# Altium schematic symbol library Schlib.SchLib: 38 symbols
Pins are listed as number, name and electrical type; pins without a type are passive.

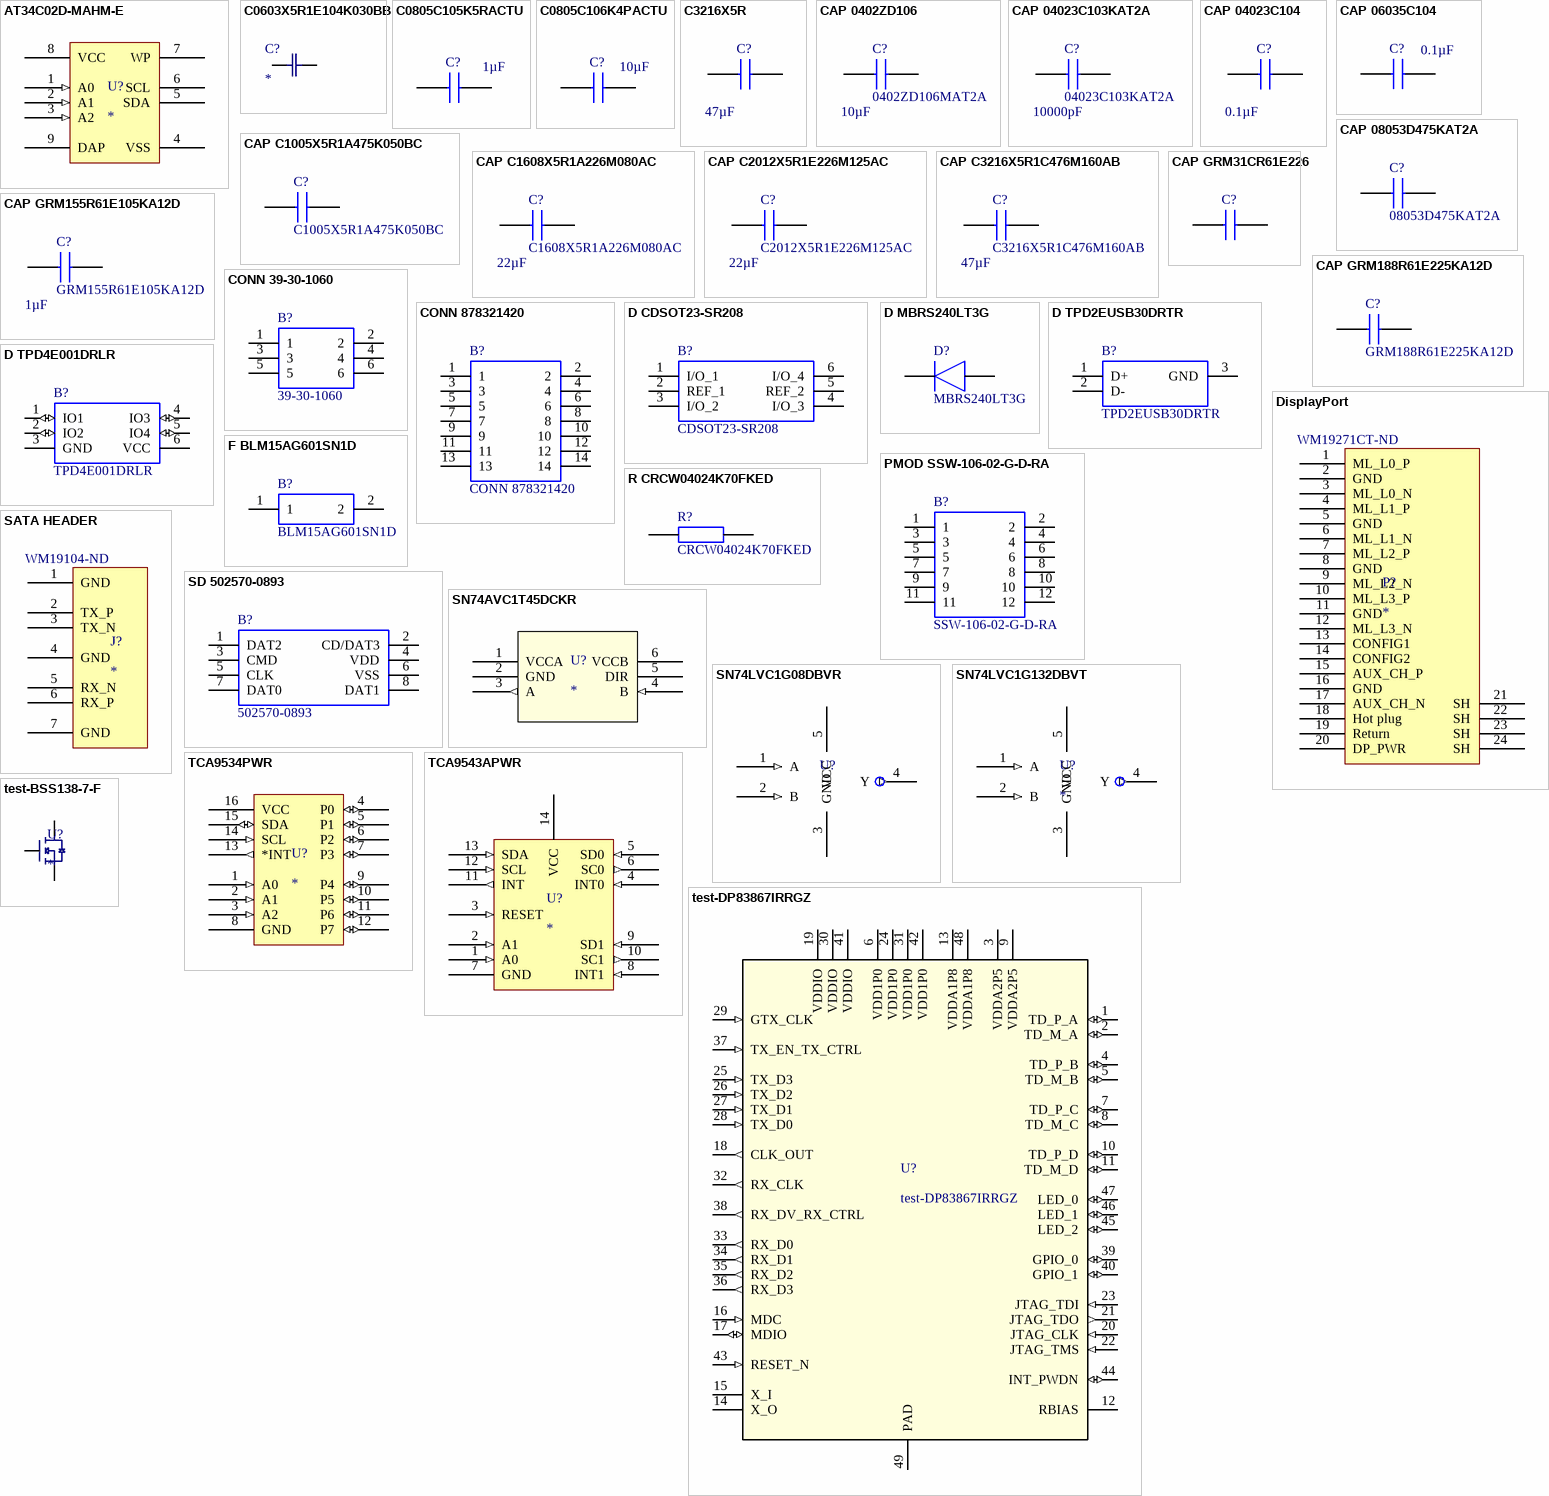
[diagram p0: symbols AT34C02D-MAHM-E to test-DP83867IRRGZ]

## AT34C02D-MAHM-E
designator U?
IC EEPROM 2KBIT 1MHZ 8UDFN; Manufacturer: Microchip Technology; Manufacturer Part Number: AT34C02D-MAHM-T; Detailed Description: EEPROM Memory IC 2Kb (256 x 8) I²C 1MHz 8-UDFN (2x3); Memory Type: Non-Volatile; Memory Size: 2Kb (256 x 8); Write Cycle Time - Word, Page: 5ms; Memory Interface: I²C; Voltage - Supply: 1.7 V ~ 5.5 V; Digi-Key Part Number: AT34C02D-MAHM-TTR-ND; Memory Format: EEPROM; Technology: EEPROM; Clock Frequency: 1MHz; Access Time: -; Operating Temperature: -40°C ~ 85°C (TA); Mounting Type: Surface Mount; Package / Case: 8-UFDFN Exposed Pad; Supplier Device Package: 8-UDFN (2x3); Supplier 1: Digi-Key; Supplier Part Number 1: AT34C02D-MAHM-TTR-ND
footprint AT34C02D-MAHM-E (IC EEPROM 2KBIT 1MHZ 8UDFN)
pins: 1 A0 (in), 2 A1 (in), 3 A2 (in), 4 VSS (power), 5 SDA (power), 6 SCL (power), 7 WP (power), 8 VCC (power), 9 DAP (power)

## C0603X5R1E104K030BB
designator C?
CAP CER 0.1UF 25V 10% X5R 0201; Manufacturer_Part_Number: C0603X5R1E104K030BB; Manufacturer: TDK Corporation; Value: 0.1µF; Detailed Description: 0.1µF ±10% 25V Ceramic Capacitor X5R 0201 (0603 Metric); Digi-Key Part Number: 445-13671-1-ND; Tolerance: ±10%; Voltage - Rated: 25V; Temperature Coefficient: X5R; Operating Temperature: -55°C ~ 85°C; Features: Low ESL; Applications: General Purpose; Mounting Type: Surface Mount, MLCC; Supplier 1: Digi-Key; Supplier Part Number 1: 445-13671-1-ND
footprint CAP_0603
pins: 1, 2

## C0805C105K5RACTU
designator C?  value 1µF  (hidden comment: *)
Capacitor 0805 10uF 16V Kemet 0805 C 10F Ceramic Multilayer Capacitor, 16 V dc, +85C, X5R Dielectric, 10%; Manufacturer_Part_Number: C0805C105K5RACTU; Geometry.Height: 0.88mm; Detailed Description: 10µF ±10% 16V Ceramic Capacitor X5R 0805 (2012 Metric); Voltage - Rated: 50V; Temperature Coefficient: X7R; Supplier_Name: RS; Manufacturer_Name: Kemet; Allied_Number: *; Other Part Number: *; Datasheet Link: http://docs-europe.electrocomponents.com/webdocs/116e/0900766b8116eb59.pdf; 3D Package: *; Digi-Key Part Number: 399-7409-1-ND; Tolerance: ±10%; Operating Temperature: -55°C ~ 125°C; Features: Low ESL; Applications: General Purpose; Mounting Type: Surface Mount, MLCC; Supplier 1: Digi-Key; Supplier Part Number 1: 399-7409-1-ND
footprint C0805C105 (C0805C105K5RACTU)
pins: 1, 2

## C0805C106K4PACTU
designator C?  value 10µF  (hidden comment: *)
Capacitor 0805 10uF 16V Kemet 0805 C 10F Ceramic Multilayer Capacitor, 16 V dc, +85C, X5R Dielectric, 10%; Manufacturer_Part_Number: C0805C106K4PACTU; Geometry.Height: 0.88mm; Detailed Description: 10µF ±10% 16V Ceramic Capacitor X5R 0805 (2012 Metric); Supplier_Name: RS; RS Part Number: 6911161; Manufacturer_Name: Kemet; Allied_Number: *; Other Part Number: *; Datasheet Link: http://docs-europe.electrocomponents.com/webdocs/116e/0900766b8116eb59.pdf; 3D Package: *; Digi-Key Part Number: 399-8012-1-ND; Tolerance: ±10%; Voltage - Rated: 16V; Temperature Coefficient: X5R; Operating Temperature: -55°C ~ 85°C; Features: Low ESL; Applications: General Purpose; Mounting Type: Surface Mount, MLCC; Supplier 1: Digi-Key; Supplier Part Number 1: 399-8012-1-ND
footprint CAP 0805 (C0805C106K4PACTU)
pins: 1, 2

## C3216X5R
designator C?, comment value 47µF  (hidden comment: C3216X5R1C476M160AB)
CAP CER 47UF 16V X5R 1206; Manufacturer_Name: TDK Corporation; Geometry.Height: 1.8mm; Detailed Description: 47µF ±20% 16V Ceramic Capacitor X5R 1206 (3216 Metric); Tolerance: ±20%; Supplier_Name: RS; RS Part Number: 9039158P; Manufacturer_Part_Number: C3216X5R1C476M160AB; Allied_Number: *; Other Part Number: *; Datasheet Link: https://product.tdk.com/info/en/catalog/datasheets/mlcc_commercial_midvoltage_en.pdf; 3D Package: *; Digi-Key Part Number: 445-6003-1-ND; Voltage - Rated: 16V; Temperature Coefficient: X5R; Operating Temperature: -55°C ~ 85°C; Mounting Type: Surface Mount, MLCC; Supplier 1: Digi-Key; Supplier Part Number 1: 445-6003-1-ND
footprint CAPC3216X180N
pins: 1, 2

## CAP 0402ZD106
designator C?, comment 0402ZD106MAT2A  value 10µF
CAP CER 10UF 10V X5R 0402; Manufacturer_Name: AVX; Geometry.Height: 0.56mm; Detailed Description: 10µF ±20% 10V Ceramic Capacitor X5R 0402 (1005 Metric); Tolerance: ±20%; Manufacturer_Part_Number: 0402ZD106MAT2A; Datasheet Link: http://www.mouser.com/catalog/supplier/library/pdf/AVXSurfaceMountCeramic.pdf; Digi-Key Part Number: 478-10052-1-ND; Voltage - Rated: 10V; Temperature Coefficient: X5R; Operating Temperature: -55°C ~ 85°C; Mounting Type: Surface Mount, MLCC; Supplier 1: Digi-Key; Supplier Part Number 1: 478-10052-2-ND
footprint CAP 0402ZD106
pins: 1, 2

## CAP 04023C103KAT2A
designator C?, comment 04023C103KAT2A  Capacitance: 10000pF
Capacitor MLCC 0402 10nF 25V AVX 0402 Standard 10nF Ceramic Multilayer Capacitor, 25 V dc, +125C, X7R Dielectric, 10% SMD; Geometry.Height: 0.56mm; Detailed Description: 10000pF ±10% 25V Ceramic Capacitor X7R 0402 (1005 Metric); Manufacturer_Name: AVX; Manufacturer_Part_Number: 04023C103KAT2A; Datasheet Link: http://www.mouser.com/catalog/supplier/library/pdf/AVXSurfaceMountCeramic.pdf; Digi-Key Part Number: 478-1113-1-ND; Tolerance: ±10%; Voltage - Rated: 25V; Temperature Coefficient: X7R; Operating Temperature: -55°C ~ 125°C; Mounting Type: Surface Mount, MLCC; Package / Case: 0402 (1005 Metric); Size / Dimension: 0.039" L x 0.020" W (1.00mm x 0.50mm); Thickness (Max): 0.022" (0.56mm); Supplier 1: Digi-Key; Supplier Part Number 1: 478-1113-1-ND
footprint CAPC1005X56N
pins: 1, 2

## CAP 04023C104
designator C?, comment value 0.1µF  (hidden comment: 04023C104KAT2A)
CAP CER 0.1UF 25V X7R 0402; Manufacturer_Name: AVX Corporation; Geometry.Height: 0.56mm; Detailed Description: 0.1µF ±10% 25V Ceramic Capacitor X7R 0402 (1005 Metric); Tolerance: ±10%; Manufacturer_Part_Number: 04023C104KAT2A; Allied_Number: *; Datasheet Link: http://datasheets.avx.com/X7RDielectric.pdf; 3D Package: *; Digi-Key Part Number: 478-7868-1-ND; Voltage - Rated: 25V; Temperature Coefficient: X7R; Operating Temperature: -55°C ~ 125°C; Mounting Type: Surface Mount, MLCC; Supplier 1: Digi-Key; Supplier Part Number 1: 478-7868-1-ND
footprint CAP 04023C104 (CAP CER 0.1UF 25V X7R 0402)
pins: 1, 2

## CAP 06035C104
designator C?, comment value 0.1µF  (hidden comment: 06035C104KAT2A)
CAP CER 0.1UF 50V 10% X7R 0603; Manufacturer_Name: AVX Corporation; Allied_Number: 70002065; Geometry.Height: 1mm; Detailed Description: 0.1µF ±10% 50V Ceramic Capacitor X7R 0603 (1608 Metric); Manufacturer_Part_Number: 06035C104KAT2A; Datasheet Link: http://datasheets.avx.com/X7RDielectric.pdf; Digi-Key Part Number: 478-5052-1-ND; Tolerance: ±10%; Voltage - Rated: 50V; Temperature Coefficient: X7R; Operating Temperature: -55°C ~ 125°C; Mounting Type: Surface Mount, MLCC; Supplier 1: Digi-Key; Supplier Part Number 1: 478-5052-1-ND
footprint CAP 06035C104 (CAP CER 0.1UF 50V 10% X7R 0603)
pins: 1, 2

## CAP 08053D475KAT2A
designator C?, comment 08053D475KAT2A
AVX 4.7uF  /-10% 25 V dc X5R Dielectric SMD Ceramic Multilayer Capacitor 0805; Geometry.Height: 1.4mm; Detailed Description: 4.7µF ±10% 25V Ceramic Capacitor X5R 0805 (2012 Metric); Capacitance: 4.7µF; Tolerance: ±10%; Voltage - Rated: 25V; Manufacturer_Name: AVX; Manufacturer_Part_Number: 08053D475KAT2A; Datasheet Link: http://datasheets.avx.com/cx5r.pdf; Digi-Key Part Number: 478-6043-1-ND; Temperature Coefficient: X5R; Operating Temperature: -55°C ~ 85°C; Mounting Type: Surface Mount, MLCC; Package / Case: 0805 (2012 Metric); Size / Dimension: 0.079" L x 0.049" W (2.01mm x 1.25mm); Thickness (Max): 0.055" (1.40mm); Supplier 1: Digi-Key; Supplier Part Number 1: 478-6043-1-ND
footprint CAPC2012X140N
pins: 1, 2

## CAP C1005X5R1A475K050BC
designator C?, comment C1005X5R1A475K050BC
Capacitor MLCC 0402 10V 4.7uF X5R; Manufacturer_Name: TDK; Geometry.Height: 0.55mm; Detailed Description: 4.7µF ±10% 10V Ceramic Capacitor X5R 0402 (1005 Metric); Capacitance: 4.7µF; Tolerance: ±10%; Manufacturer_Part_Number: C1005X5R1A475K050BC; Datasheet Link: https://product.tdk.com/info/en/catalog/datasheets/mlcc_commercial_midvoltage_en.pdf; Digi-Key Part Number: 445-13820-1-ND; Voltage - Rated: 10V; Temperature Coefficient: X5R; Operating Temperature: -55°C ~ 85°C; Mounting Type: Surface Mount, MLCC; Package / Case: 0402 (1005 Metric); Size / Dimension: 0.039" L x 0.020" W (1.00mm x 0.50mm); Thickness (Max): 0.022" (0.55mm); Supplier 1: Digi-Key; Supplier Part Number 1: 445-13820-1-ND
footprint CAPC1005X5 (CAP CER 4.7UF 10V 10% X5R 0402)
pins: 1, 2

## CAP C1608X5R1A226M080AC
designator C?, comment C1608X5R1A226M080AC  Capacitance: 22µF
Capacitor MLCC 0603 10V 22uF X5R; Manufacturer_Name: TDK; Geometry.Height: 0.8mm; Detailed Description: 22µF ±20% 10V Ceramic Capacitor X5R 0603 (1608 Metric); Tolerance: ±20%; Manufacturer_Part_Number: C1608X5R1A226M080AC; Datasheet Link: https://product.tdk.com/info/en/catalog/datasheets/mlcc_commercial_midvoltage_en.pdf; Digi-Key Part Number: 445-9077-1-ND; Voltage - Rated: 10V; Temperature Coefficient: X5R; Operating Temperature: -55°C ~ 85°C; Mounting Type: Surface Mount, MLCC; Package / Case: 0603 (1608 Metric); Size / Dimension: 0.063" L x 0.032" W (1.60mm x 0.80mm); Thickness (Max): 0.039" (1.00mm); Supplier 1: Digi-Key; Supplier Part Number 1: 445-9077-1-ND
footprint CAPC1608X80N
pins: 1, 2

## CAP C2012X5R1E226M125AC
designator C?, comment C2012X5R1E226M125AC  Capacitance: 22µF
Capacitors MLCC - SMD/SMT 0805 22uF 25volts X5R +/-20% GP; Manufacturer_Name: TDK; Geometry.Height: 1.45mm; Tolerance: ±20%; Voltage - Rated: 25V; Manufacturer_Part_Number: C2012X5R1E226M125AC; Datasheet Link: https://product.tdk.com/info/en/catalog/datasheets/mlcc_commercial_midvoltage_en.pdf; Digi-Key Part Number: 445-9112-1-ND; Series: C; Temperature Coefficient: X5R; Operating Temperature: -55°C ~ 85°C; Mounting Type: Surface Mount, MLCC; Package / Case: 0805 (2012 Metric); Size / Dimension: 0.079" L x 0.049" W (2.00mm x 1.25mm); Thickness (Max): 0.057" (1.45mm); Supplier 1: Digi-Key; Supplier Part Number 1: 445-9112-1-ND
footprint CAPC2012X145N
pins: 1, 2

## CAP C3216X5R1C476M160AB
designator C?, comment C3216X5R1C476M160AB  Capacitance: 47µF
Multilayer Ceramic Capacitors MLCC - SMD/SMT CAP CER 47UF 16V X5R 20% 1206; Manufacturer_Name: TDK; Geometry.Height: 1.8mm; Detailed Description: 47µF ±20% 16V Ceramic Capacitor X5R 1206 (3216 Metric); Manufacturer_Part_Number: C3216X5R1C476M160AB; Datasheet Link: https://product.tdk.com/info/en/catalog/datasheets/mlcc_commercial_midvoltage_en.pdf; Digi-Key Part Number: 445-6003-1-ND; Tolerance: ±20%; Voltage - Rated: 16V; Temperature Coefficient: X5R; Operating Temperature: -55°C ~ 85°C; Mounting Type: Surface Mount, MLCC; Package / Case: 1206 (3216 Metric); Size / Dimension: 0.126" L x 0.063" W (3.20mm x 1.60mm); Thickness (Max): 0.071" (1.80mm); Supplier 1: Digi-Key; Supplier Part Number 1: 445-6003-1-ND
footprint CAPC3216X180N
pins: 1, 2

## CAP GRM31CR61E226
designator C?, comment GRM31CR61E226KE15L  (value not drawn)
CAP, MLCC, X5R, 22UF, 25V, 1206; Manufacturer_Name: Murata Electronics; Geometry.Height: 1.8mm; Detailed Description: 22µF ±10% 25V Ceramic Capacitor X5R 1206 (3216 Metric); Value: 22µF; Tolerance: ±10%; Manufacturer_Part_Number: GRM31CR61E226KE15L; Datasheet Link: http://www.murata.com/~/media/webrenewal/support/library/catalog/products/capacitor/mlcc/c02e.pdf; Digi-Key Part Number: 490-5527-1-ND; Series: GRM; Voltage - Rated: 25V; Temperature Coefficient: X5R; Operating Temperature: -55°C ~ 85°C; Applications: General Purpose; Mounting Type: Surface Mount, MLCC; Supplier 1: Digi-Key; Supplier Part Number 1: 490-5527-1-ND
footprint CAP GRM31CR61E226
pins: 1, 2

## CAP GRM155R61E105KA12D
designator C?, comment GRM155R61E105KA12D  Capacitance: 1µF
CAP, MLCC, X5R, 1UF, 25V, 0402; Manufacturer_Name: Murata Electronics; Geometry.Height: 0.55mm; Detailed Description: 1µF ±10% 25V Ceramic Capacitor X5R 0402 (1005 Metric); Tolerance: ±10%; Manufacturer_Part_Number: GRM155R61E105KA12D; Datasheet Link: http://www.murata.com/~/media/webrenewal/support/library/catalog/products/capacitor/mlcc/c02e.pdf; Digi-Key Part Number: 490-10017-1-ND; Series: GRM; Voltage - Rated: 25V; Temperature Coefficient: X5R; Operating Temperature: -55°C ~ 85°C; Mounting Type: Surface Mount, MLCC; Package / Case: 0402 (1005 Metric); Size / Dimension: 0.039" L x 0.020" W (1.00mm x 0.50mm); Thickness (Max): 0.022" (0.55mm); Supplier 1: Digi-Key; Supplier Part Number 1: 490-10017-1-ND
footprint CAPC1005X55N
pins: 1, 2

## CAP GRM188R61E225KA12D
designator C?, comment GRM188R61E225KA12D
Ceramic Capacitors 0603 2.2uF 25V Murata 0603 GRM 2.2F Ceramic Multilayer Capacitor, 25 V dc X5R Dielectric 10% SMD; Manufacturer_Name: Murata Electronics; Geometry.Height: 0.9mm; Detailed Description: 2.2µF ±10% 25V Ceramic Capacitor X5R 0603 (1608 Metric); Capacitance: 2.2µF; Manufacturer_Part_Number: GRM188R61E225KA12D; Datasheet Link: http://www.murata.com/~/media/webrenewal/support/library/catalog/products/capacitor/mlcc/c02e.pdf; Digi-Key Part Number: 490-10731-1-ND; Tolerance: ±10%; Voltage - Rated: 25V; Temperature Coefficient: X5R; Operating Temperature: -55°C ~ 85°C; Mounting Type: Surface Mount, MLCC; Package / Case: 0603 (1608 Metric); Size / Dimension: 0.063" L x 0.032" W (1.60mm x 0.80mm); Thickness (Max): 0.035" (0.90mm); Supplier 1: Digi-Key; Supplier Part Number 1: 490-10731-1-ND
footprint CAPC1608X90N
pins: 1, 2

## CONN 39-30-1060
designator B?, comment 39-30-1060
6 way r/a PCB header w/peg,Mini-Fit Jr Molex MINI-FIT JR. Series, Series Number 5569, 4.2mm Pitch 6 Way 2 Row Shrouded Right Angle PCB Header, Through Hole; Geometry.Height: mm; Detailed Description: 6 Positions Header Connector 0.165" (4.20mm) Through Hole, Right Angle Tin; Pitch - Mating: 0.165" (4.20mm); Number of Positions: 6; Number of Positions Loaded: All; Style: Board to Cable/Wire; Shrouding: Shrouded - 4 Wall; Contact Length - Post: 0.142" (3.60mm); Material Flammability Rating: UL94 V-2; Manufacturer_Name: Molex; Manufacturer_Part_Number: 39-30-1060; Datasheet Link: http://uk.rs-online.com/web/p/products/5109859; Digi-Key Part Number: WM1353-ND; Connector Type: Header; Contact Type: Male Pin; Number of Rows: 2; Row Spacing - Mating: 0.165" (4.20mm); Mounting Type: Through Hole, Right Angle; Termination: Solder; Fastening Type: Locking Ramp; Insulation Height: 0.378" (9.60mm); Contact Shape: Square; Contact Finish - Mating: Tin; Contact Finish Thickness - Mating: 100µin (2.54µm); Contact Finish - Post: Tin; Contact Material: Brass; Insulation Material: Polyamide (PA66), Nylon 6/6; Features: Board Lock; Contact Finish Thickness - Post: 100µin (2.54µm); Supplier 1: Digi-Key; Supplier Part Number 1: WM1353-ND
footprint 39-30-1060
pins: 1, 2, 3, 4, 5, 6

## CONN 878321420
designator B?
Molex MILLI-GRID Series, Series Number 87832, 2mm Pitch 14 Way 2 Row Straight PCB Header, Solder Termination, 2A; Manufacturer_Part_Number: 87832-1420; Geometry.Height: mm; Detailed Description: 14 Positions Header Connector 0.079" (2.00mm) Surface Mount Gold; Pitch - Mating: 0.079" (2.00mm); Number of Positions: 14; Number of Positions Loaded: All; Style: Board to Board or Cable; Shrouding: Shrouded - 4 Wall; Contact Length - Mating: 0.141" (3.60mm); Material Flammability Rating: UL94 V-0; Manufacturer_Name: Molex; Datasheet Link: http://www.molex.com/pdm_docs/sd/878321420_sd.pdf; Digi-Key Part Number: WM18641-ND; Connector Type: Header; Contact Type: Male Pin; Number of Rows: 2; Row Spacing - Mating: 0.079" (2.00mm); Mounting Type: Surface Mount; Termination: Solder; Fastening Type: Latch Holder; Insulation Height: 0.252" (6.40mm); Contact Shape: Square; Contact Finish - Mating: Gold; Contact Finish Thickness - Mating: 74.8µin (1.90µm); Contact Finish - Post: Tin; Contact Material: Phosphor Bronze; Insulation Material: Polyamide (PA), Nylon, Glass Filled; Features: Board Guide; Insulation Color: Black; Supplier 1: Digi-Key; Supplier Part Number 1: WM18641-ND
footprint 87832-1420
pins: 1, 2, 3, 4, 5, 6, 7, 8, 9, 10, 11, 12, 13, 14

## D CDSOT23-SR208
designator B?, comment CDSOT23-SR208
ESD Suppressors / TVS Diodes STEERING DIODE ARRAY; Manufacturer_Name: Bourns; Geometry.Height: 1.3mm; Unidirectional Channels: 4; Voltage - Reverse Standoff (Typ): 20V; Power Line Protection: No; Manufacturer_Part_Number: CDSOT23-SR208; Datasheet Link: https://www.bourns.com/docs/Product-Datasheets/CDSOT23-SR208.pdf; Digi-Key Part Number: CDSOT23-SR208CT-ND; Type: Steering; Operating Temperature: -55°C ~ 150°C (TJ); Mounting Type: Surface Mount; Package / Case: SOT-23-6; Supplier Device Package: SOT-23-6; Supplier 1: Digi-Key; Supplier Part Number 1: CDSOT23-SR208CT-ND
footprint SOT95P280X130-6N
pins: 1 I/O_1, 2 REF_1, 3 I/O_2, 4 I/O_3, 5 REF_2, 6 I/O_4
1 alternate drawing of the same symbol

## D MBRS240LT3G
designator D?, comment MBRS240LT3G
DIODE SCHOTTKY 40V 2A SMB; Manufacturer_Name: ON Semiconductor; Allied_Number: 70099506; Geometry.Height: 2.47mm; Supplier_Name: RS; RS Part Number: 1022262; Manufacturer_Part_Number: MBRS240LT3G; Other Part Number: *; Datasheet Link: http://www.onsemi.com/pub/Collateral/MBRS240LT3-D.PDF; 3D Package: *; Supplier 1: Digi-Key; Supplier Part Number 1: MBRS240LT3GOSCT-ND
footprint DIOM5436X247N
pins: 1 K, 2 A

## D TPD2EUSB30DRTR
designator B?, comment TPD2EUSB30DRTR
Texas Instruments TPD2EUSB30DRTR Dual Bi-Directional TVS Diode Array, 45W peak, 3-Pin SOT; Geometry.Height: 0.5mm; Unidirectional Channels: 2; Voltage - Reverse Standoff (Typ): 5.5V (Max); Voltage - Breakdown (Min): 7V; Voltage - Clamping (Max) @ Ipp: 8V; Current - Peak Pulse (10/1000µs): 1A (8/20µs); Power Line Protection: Yes; Manufacturer_Name: Texas Instruments; Manufacturer_Part_Number: TPD2EUSB30DRTR; Datasheet Link: http://docs-europe.electrocomponents.com/webdocs/1520/0900766b81520865.pdf; Digi-Key Part Number: 296-25509-1-ND; Type: Steering; Power - Peak Pulse: 45W; Operating Temperature: -40°C ~ 85°C (TA); Mounting Type: Surface Mount; Package / Case: SOT-3; Supplier Device Package: SOT-3; Supplier 1: Digi-Key; Supplier Part Number 1: 296-25509-6-ND
footprint SOTFL35P100X50-3N (TVS DIODE 5.5VWM 8VC SOT3)
pins: 1 D+, 2 D-, 3 GND

## D TPD4E001DRLR
designator B?, comment TPD4E001DRLR
Low-Capacitance 4-Channel +/-15-kV ESD Protection Array for High-Speed Data Interfaces; Manufacturer_Name: Texas Instruments; Geometry.Height: 0.6mm; Unidirectional Channels: 4; Voltage - Reverse Standoff (Typ): 5.5V (Max); Voltage - Breakdown (Min): 11V; Power - Peak Pulse: 100W; Power Line Protection: Yes; Manufacturer_Part_Number: TPD4E001DRLR; Datasheet Link: http://www.ti.com/lit/ds/symlink/tpd4e001.pdf; Digi-Key Part Number: 296-21887-1-ND; Type: Steering; Applications: Ethernet; Operating Temperature: -40°C ~ 85°C (TA); Mounting Type: Surface Mount; Package / Case: SOT-563, SOT-666; Supplier Device Package: 6-SOT; Supplier 1: Digi-Key; Supplier Part Number 1: 296-21887-1-ND
footprint SOTFL50P160X60-6N
pins: 1 IO1 (io), 2 IO2 (io), 3 GND, 4 IO3 (io), 5 IO4 (io), 6 VCC (power)

## DisplayPort
designator P?  Supplier Part Number 1: WM19271CT-ND
CONN RCPT 20POS UDI R/A SMD; Manufacturer: Molex, LLC; Manufacturer Part Number: 0472720001; Detailed Description: DisplayPort Receptacle Connector 20 Position Surface Mount, Right Angle; Through Hole; Connector Type: DisplayPort; Number of Contacts: 20; Gender: Receptacle; Number of Ports: 1; Current Rating: 0.5A; Voltage - Rated: 40VAC; Mating Cycles: 10000; Shielding: Shielded; Material Flammability Rating: UL94 V-0; Digi-Key Part Number: WM19271CT-ND; Series: 47272; Specifications: -; Mounting Type: Surface Mount, Right Angle; Through Hole; Mounting Feature: Horizontal; Termination: Solder; Features: Board Guide, Latch Lock; Ingress Protection: -; Operating Temperature: -20°C ~ 85°C; Contact Finish: Gold; Shell/Shielding Material: Steel, Stainless; Insulation Color: Black; Supplier 1: Digi-Key
pins: 1 ML_L0_P  (power), 2 GND (power), 3 ML_L0_N  (power), 4 ML_L1_P  (power), 5 GND (power), 6 ML_L1_N  (power), 7 ML_L2_P  (power), 8 GND (power), 9 ML_L2_N  (power), 10 ML_L3_P  (power), 11 GND (power), 12 ML_L3_N  (power), 13 CONFIG1 (power), 14 CONFIG2 (power), 15 AUX_CH_P (power), 16 GND (power), 17 AUX_CH_N (power), 18 Hot plug (power), 19 Return (power), 20 DP_PWR (power), 21 SH (power), 22 SH (power), 23 SH (power), 24 SH (power)

## F BLM15AG601SN1D
designator B?, comment BLM15AG601SN1D
Ferrite bead SMD 0402 600R 300mA; Manufacturer_Name: Murata Electronics; Geometry.Height: 0.55mm; Number of Lines: 1; Impedance @ Frequency: 600 Ohm @ 100MHz; DC Resistance (DCR) (Max): 520 mOhm; Manufacturer_Part_Number: BLM15AG601SN1D; Datasheet Link: http://www.murata.com/~/media/webrenewal/support/library/catalog/products/emc/emifil/c31e.ashx?la=en-gb; Digi-Key Part Number: 490-1006-1-ND; Series: EMIFIL®, BLM15; Current Rating (Max): 300mA; Operating Temperature: -55°C ~ 125°C; Package / Case: 0402 (1005 Metric); Mounting Type: Surface Mount; Height (Max): 0.022" (0.55mm); Size / Dimension: 0.039" L x 0.020" W (1.00mm x 0.50mm); Supplier 1: Digi-Key; Supplier Part Number 1: 490-1006-1-ND
footprint BEADC1005X55N
pins: 1, 2

## PMOD SSW-106-02-G-D-RA
designator B?, comment SSW-106-02-G-D-RA
Samtec SSW Series 2.54mm 12 Way 2 Row Right Angle PCB Socket Through Hole Board to Board; Geometry.Height: mm; Detailed Description: 12 Position Receptacle Connector Through Hole, Right Angle; Connector Type: Receptacle; Style: Board to Board or Cable; Number of Positions: 12; Number of Positions Loaded: All; Pitch - Mating: 0.100" (2.54mm); Material Flammability Rating: UL94 V-0; Current Rating: 5.7A per Contact; Manufacturer_Name: SAMTEC; Manufacturer_Part_Number: SSW-106-02-G-D-RA; Datasheet Link: http://suddendocs.samtec.com/prints/ssw-1xx-xx-xxx-x-xx-xxx-xx-mkt.pdf; Digi-Key Part Number: SAM10026-ND; Contact Type: Forked; Number of Rows: 2; Row Spacing - Mating: 0.100" (2.54mm); Mounting Type: Through Hole, Right Angle; Termination: Solder; Fastening Type: Push-Pull; Contact Finish - Mating: Tin; Insulation Color: Black; Insulation Height: 0.195" (4.95mm); Contact Length - Post: 0.100" (2.54mm); Operating Temperature: -55°C ~ 105°C; Contact Finish - Post: Tin; Insulation Material: Liquid Crystal Polymer (LCP); Contact Shape: Square; Contact Material: Phosphor Bronze; Supplier 1: Digi-Key; Supplier Part Number 1: SAM1215-06-ND
footprint SSW-106-02-G-D-RA
pins: 1, 2, 3, 4, 5, 6, 7, 8, 9, 10, 11, 12

## R CRCW04024K70FKED
designator R?, comment CRCW04024K70FKED
CRCW0402 Resistor T/R 0.063W,1%,4K7 Vishay CRCW Series Thick Film Surface Mount Resistor 0402 Case 4.7k 1% 0.063W 100ppm/C; Geometry.Height: 0.4mm; Detailed Description: 4.7 kOhms ±1% 0.063W, 1/16W Chip Resistor 0402 (1005 Metric) Automotive AEC-Q200 Thick Film; Resistance: 4.7 kOhms; Power (Watts): 0.063W, 1/16W; Temperature Coefficient: ±100ppm/°C; Manufacturer_Name: Vishay; Manufacturer_Part_Number: CRCW04024K70FKED; Datasheet Link: http://www.vishay.com/docs/20035/dcrcwe3.pdf; Digi-Key Part Number: 541-4.70KLCT-ND; Tolerance: ±1%; Composition: Thick Film; Features: Automotive AEC-Q200; Operating Temperature: -55°C ~ 155°C; Package / Case: 0402 (1005 Metric); Supplier Device Package: 0402; Size / Dimension: 0.039" L x 0.020" W (1.00mm x 0.50mm); Height - Seated (Max): 0.016" (0.40mm); Number of Terminations: 2; Supplier 1: Digi-Key; Supplier Part Number 1: 541-4.70KLCT-ND
footprint RESC1005X40N
pins: 1, 2

## SATA HEADER
designator J?  Supplier Part Number 1: WM19104-ND
CONN HEADER 7POS VERT SMD 15GOLD; Manufacturer: Molex, LLC; Manufacturer Part Number: 0678005005; Connector Style: Header, Shrouded; Connector Type: SATA; Number of Positions: 7; Digi-Key Part Number: WM19104-ND; Series: 67800; Part Status: Active; Mounting Type: Surface Mount; Termination: Solder; Features: Board Guide; Contact Finish: Gold; Contact Finish Thickness: 15µin (0.38µm); Supplier 1: Digi-Key
footprint SATA HEADER
pins: 1 GND (power), 2 TX_P (power), 3 TX_N (power), 4 GND (power), 5 RX_N (power), 6 RX_P (power), 7 GND (power)

## SD 502570-0893
designator B?, comment 502570-0893
Micro SD card connector,SMT,push-push Micro SD card connector,SMT,push-push; Manufacturer_Name: Molex; Geometry.Height: mm; Detailed Description: 10 (8 + 2) Position Card Connector Secure Digital - microSD™ Surface Mount, Right Angle Gold; Card Type: Secure Digital - microSD™; Number of Positions: 10 (8 + 2); Connector Type: Connector and Ejector; Insertion, Removal Method: Push In, Push Out; Manufacturer_Part_Number: 502570-0893; Datasheet Link: http://www.molex.com/molex/products/datasheet.jsp?part=active/5025700893_MEMORY_CARD_SOCKET.xml; Digi-Key Part Number: WM19093CT-ND; Series: 502570; Mounting Type: Surface Mount, Right Angle; Features: Switch; Height Above Board: 0.071" (1.80mm); Mounting Feature: Normal, Standard - Top; Contact Finish: Gold; Contact Finish Thickness: 20µin (0.51µm); Supplier 1: Digi-Key; Supplier Part Number 1: WM19093CT-ND
footprint 502570-0893_1
pins: 1 DAT2, 2 CD/DAT3, 3 CMD, 4 VDD, 5 CLK, 6 VSS, 7 DAT0, 8 DAT1

## SN74AVC1T45DCKR
designator U?
IC BUS TRANSCVR TRI-ST SC70-6; Manufacturer: Texas Instruments; Manufacturer Part Number: SN74AVC1T45DCKR; Detailed Description: Voltage Level Translator Bidirectional 1 Circuit 1 Channel 500Mbps SC-70-6; Translator Type: Voltage Level; Channel Type: Bidirectional; Number of Circuits: 1; Voltage - VCCA: 1.2V ~ 3.6V; Output Type: Tri-State, Non-Inverted; Data Rate: 500Mbps; Digi-Key Part Number: 296-17992-1-ND; Series: 74AVC; Channels per Circuit: 1; Voltage - VCCB: 1.2V ~ 3.6V; Input Signal: -; Output Signal: -; Operating Temperature: -40°C ~ 85°C (TA); Features: -; Mounting Type: Surface Mount; Package / Case: 6-TSSOP, SC-88, SOT-363; Supplier Device Package: SC-70-6; Supplier 1: Digi-Key; Supplier Part Number 1: 296-17992-1-ND
footprint SN74AVC1T45DCKR (IC BUS TRANSCVR TRI-ST SC70-6)
pins: 1 VCCA (power), 2 GND (power), 3 A (out), 4 B (in), 5 DIR, 6 VCCB (power)

## SN74LVC1G08DBVR
designator U?  (value not drawn)
IC GATE AND 1CH 2-INP SOT-23-5; Manufacturer: Texas Instruments; Manufacturer Part Number: SN74LVC1G08DBVR; Detailed Description: AND Gate IC 1 Channel SOT-23-5; Logic Type: AND Gate; Number of Circuits: 1; Number of Inputs: 2; Voltage - Supply: 1.65 V ~ 5.5 V; Current - Quiescent (Max): 10µA; Current - Output High, Low: 32mA, 32mA; Max Propagation Delay @ V, Max CL: 4ns @ 5V, 50pF; Digi-Key Part Number: 296-11601-1-ND; Series: 74LVC; Features: -; Logic Level - Low: -; Logic Level - High: -; Operating Temperature: -40°C ~ 125°C; Mounting Type: Surface Mount; Supplier Device Package: SOT-23-5; Package / Case: SC-74A, SOT-753; Supplier 1: Digi-Key; Supplier Part Number 1: 296-35939-1-ND
footprint SN74LVC1G08DBVR (IC GATE AND 1CH 2-INP SOT-23-5)
pins: 1 A (in), 2 B (in), 3 GND (power), 4 Y (out), 5 VCC (power)

## SN74LVC1G132DBVT
designator U?
IC GATE NAND 1CH 2-INP SOT-23-5; Manufacturer Part Number: SN74LVC1G132DBVT; Manufacturer: Texas Instruments; Detailed Description: NAND Gate IC 1 Channel Schmitt Trigger SOT-23-5; Logic Type: NAND Gate; Number of Circuits: 1; Number of Inputs: 2; Voltage - Supply: 1.65 V ~ 5.5 V; Current - Quiescent (Max): 10µA; Current - Output High, Low: 32mA, 32mA; Logic Level - Low: 0.39 V ~ 1.87 V; Logic Level - High: 1.16 V ~ 3.33 V; Max Propagation Delay @ V, Max CL: 5ns @ 5V, 50pF; Digi-Key Part Number: 296-32295-1-ND; Series: 74LVC; Features: Schmitt Trigger; Operating Temperature: -40°C ~ 125°C; Mounting Type: Surface Mount; Supplier Device Package: SOT-23-5; Package / Case: SC-74A, SOT-753; Supplier 1: Digi-Key; Supplier Part Number 1: 296-32295-1-ND
footprint SN74LVC1G132DBVT (IC GATE NAND 1CH 2-INP SOT-23-5)
pins: 1 A (in), 2 B (in), 3 GND (power), 4 Y (out), 5 VCC (power)

## TCA9534PWR
designator U?
IC I/O EXPANDER I2C 8B 16TSSOP; Manufacturer: Texas Instruments; Manufacturer Part Number: TCA9534PWR; Number of I/O: 8; Interface: I²C; Interrupt Output: Yes; Output Type: Push-Pull; Clock Frequency: 400kHz; Voltage - Supply: 1.65 V ~ 5.5 V; Detailed Description: I/O Expander 8 I²C 400kHz 16-TSSOP; Series: -; Features: -; Current-Output Source/Sink: -; Operating Temperature: -40°C ~ 85°C; Mounting Type: Surface Mount; Package / Case: 16-TSSOP (0.173", 4.40mm Width); Supplier Device Package: 16-TSSOP; Digi-Key Part Number: 296-40574-1-ND; Supplier 1: Digi-Key; Supplier Part Number 1: 296-40574-1-ND
footprint TCA9534PWR (I/O Expander 8 I²C 400kHz 16-TSSOP)
pins: 1 A0 (in), 2 A1 (in), 3 A2 (in), 4 P0 (io), 5 P1 (io), 6 P2 (io), 7 P3 (io), 8 GND (power), 9 P4 (io), 10 P5 (io), 11 P6 (io), 12 P7 (io), 13 *INT (out), 14 SCL (in), 15 SDA (io), 16 VCC (power)

## TCA9543APWR
designator U?
IC I2C SW 2CH W/RESET 14TSSOP; Manufacturer: Texas Instruments; Manufacturer Part Number: TCA9543APWR; Detailed Description: Bus Switch 2 x 1:2 14-TSSOP; Circuit: 2 x 1:2; Independent Circuits: 1; Voltage Supply Source: Single Supply; Voltage - Supply: 1.65 V ~ 5.5 V; Digi-Key Part Number: 296-42157-1-ND; Type: Bus Switch; Current - Output High, Low: -; Operating Temperature: -40°C ~ 85°C; Mounting Type: Surface Mount; Package / Case: 14-TSSOP (0.173", 4.40mm Width); Supplier Device Package: 14-TSSOP; Supplier 1: Digi-Key; Supplier Part Number 1: 296-42157-1-ND
footprint TCA9543APWR (IC I2C SW 2CH W/RESET 14TSSOP)
pins: 1 A0 (in), 2 A1 (in), 3 RESET (in), 4 INT0 (in), 5 SD0 (in), 6 SC0 (out), 7 GND (power), 8 INT1 (in), 9 SD1 (in), 10 SC1 (out), 11 INT (out), 12 SCL (in), 13 SDA (in), 14 VCC (power)

## test-BSS138-7-F
designator U?
pins: 1, 1, 1

## test-DP83867IRRGZ
designator U?
Ethernet 10/100/1000 Base-TX PHY; Manufacturer: Texas Instruments; Manufacturer Part Number: DP83867IRRGZR; Function: Physical Layer Controller; Interface: Serial; Voltage-Supply: 1.1V, 2.5V; Current-Supply: 157mA; Detailed Description: Ethernet Physical Layer Controller 10/100/1000 Base-TX PHY Serial Interface 48-VQFN (7x7); Protocol: Ethernet; Standards: 10/100/1000 Base-TX PHY; Operating Temperature: -40 ~85 C; Package/Case: 48-VFQFN Exposed Pad; Supplier Device Package: 48-VQFN (7x7); Digi-Key part Number: DP83867IRRGZR-ND; Mount Type: SMT
footprint DP83867IRRGZR (Ethernet Switch)
pins: 1 TD_P_A (io), 2 TD_M_A (io), 3 VDDA2P5 (power), 4 TD_P_B (io), 5 TD_M_B (io), 6 VDD1P0 (power), 7 TD_P_C (io), 8 TD_M_C (io), 9 VDDA2P5 (power), 10 TD_P_D (io), 11 TD_M_D (io), 12 RBIAS, 13 VDDA1P8 (power), 14 X_O, 15 X_I, 16 MDC (in), 17 MDIO (io), 18 CLK_OUT (out), 19 VDDIO (power), 20 JTAG_CLK (in), 21 JTAG_TDO (out), 22 JTAG_TMS (in), 23 JTAG_TDI (in), 24 VDD1P0 (power), 25 TX_D3 (in), 26 TX_D2 (in), 27 TX_D1 (in), 28 TX_D0 (in), 29 GTX_CLK (in), 30 VDDIO (power), 31 VDD1P0 (power), 32 RX_CLK (out), 33 RX_D0 (out), 34 RX_D1 (out), 35 RX_D2 (out), 36 RX_D3 (out), 37 TX_EN_TX_CTRL (in), 38 RX_DV_RX_CTRL (out), 39 GPIO_0 (io), 40 GPIO_1 (io), 41 VDDIO (power), 42 VDD1P0 (power), 43 RESET_N (in), 44 INT_PWDN (io), 45 LED_2 (io), 46 LED_1 (io), 47 LED_0 (io), 48 VDDA1P8 (power), 49 PAD (power)

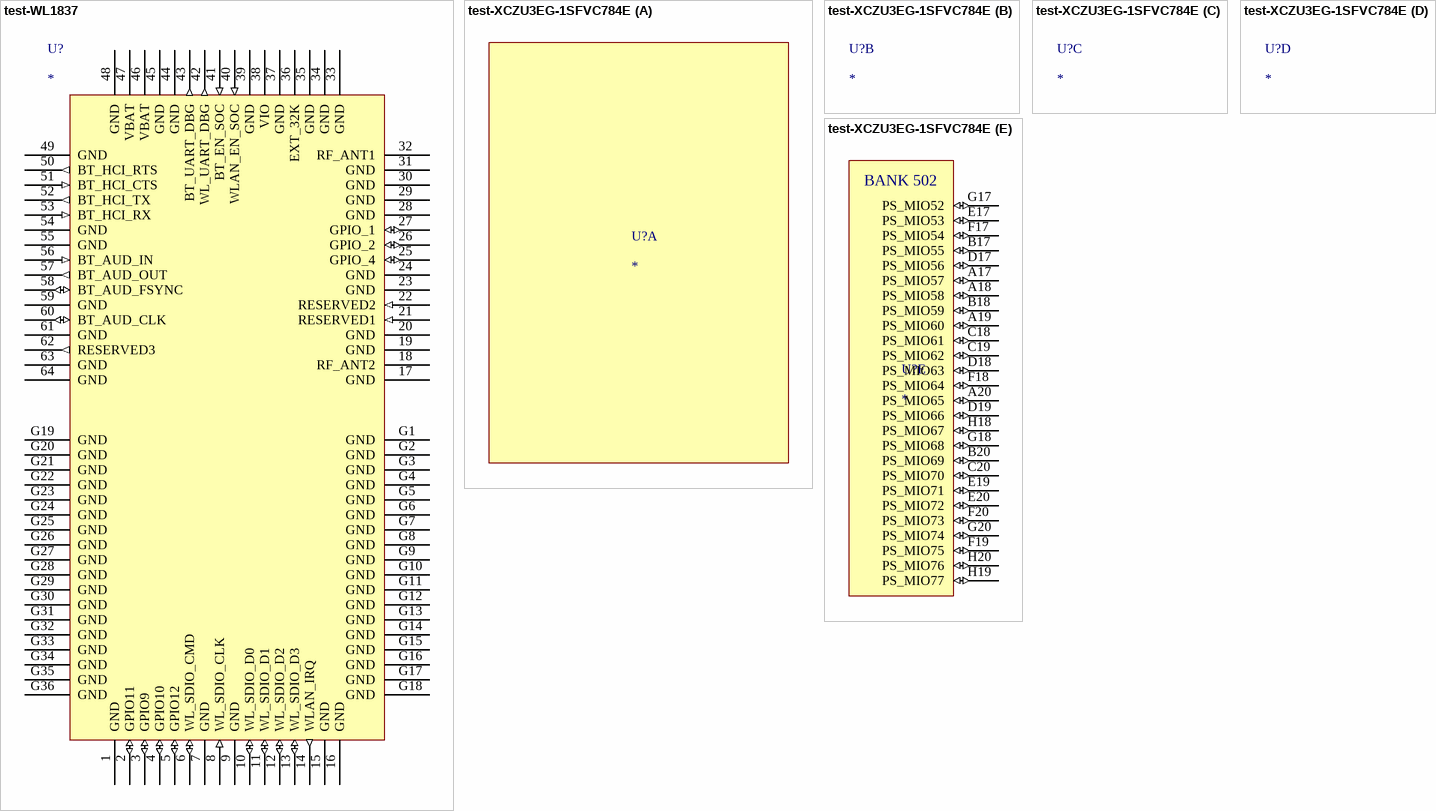
[diagram p1: symbols test-WL1837 to test-XCZU3EG-1SFVC784E]

## test-WL1837
designator U?
MODULE WIFI WILINK; Manufacturer: Texas Instruments; Manufacturer Part Number: WL1837MODGIMOCR; Frequency: 2.4GHz, 5GHz; RF Family/Standard: Bluetooth, WiFi; Protocol: 802.11a/b/g/n, Bluetooth v4.1; Data Rate: 54Mbps; Power - Output: 18dBi; Sensitivity: -95dBm; Serial Interfaces: SDIO, UART; Antenna Type: Integrated, Chip; Voltage - Supply: 2.9 V ~ 4.8 V; Current - Receiving: 49mA ~ 85mA; Current - Transmitting: 243mA ~ 510mA; Modulation: CCK, DSSS, GFSK, OFDM; Category: RF/IF and RFID; Mounting Type: Surface Mount; Operating Temperature: -40°C ~ 85°C; Package / Case: 100-SMD Module; Packaging: Cut Tape; Memory Size: -; Supplier: Digi-Key; Supplier Part Number: 296-44790-1-ND
footprint WL1837MODGIMOCR (WL18x7MOD is a Wi-Fi,  dual-band, 2.4- and 5-GHz module solution)
pins: 1 GND (power), 2 GPIO11 (io), 3 GPIO9 (io), 4 GPIO10 (io), 5 GPIO12 (io), 6 WL_SDIO_CMD (io), 7 GND (power), 8 WL_SDIO_CLK (in), 9 GND (power), 10 WL_SDIO_D0 (io), 11 WL_SDIO_D1 (io), 12 WL_SDIO_D2 (io), 13 WL_SDIO_D3 (io), 14 WLAN_IRQ (out), 15 GND (power), 16 GND (power), 17 GND (power), 18 RF_ANT2, 19 GND (power), 20 GND (power), 21 RESERVED1 (in), 22 RESERVED2 (in), 23 GND (power), 24 GND (power), 25 GPIO_4 (io), 26 GPIO_2 (io), 27 GPIO_1 (io), 28 GND (power), 29 GND (power), 30 GND (power), 31 GND (power), 32 RF_ANT1, 33 GND (power), 34 GND (power), 35 GND (power), 36 EXT_32K, 37 GND (power), 38 VIO (power), 39 GND (power), 40 WLAN_EN_SOC (in), 41 BT_EN_SOC (in), 42 WL_UART_DBG (out), 43 BT_UART_DBG (out), 44 GND (power), 45 GND (power), 46 VBAT (power), 47 VBAT (power), 48 GND (power), 49 GND (power), 50 BT_HCI_RTS (out), 51 BT_HCI_CTS (in), 52 BT_HCI_TX (out), 53 BT_HCI_RX (in), 54 GND (power), 55 GND (power), 56 BT_AUD_IN (in), 57 BT_AUD_OUT (out), 58 BT_AUD_FSYNC (io), 59 GND (power), 60 BT_AUD_CLK (io), 61 GND, 62 RESERVED3 (out), 63 GND (power), 64 GND (power), G1 GND (power), G2 GND (power), G3 GND (power), G4 GND (power), G5 GND (power), G6 GND (power), G7 GND (power), G8 GND (power), G9 GND (power), G10 GND (power), G11 GND (power), G12 GND (power), G13 GND (power), G14 GND (power), G15 GND (power), G16 GND (power), G17 GND (power), G18 GND (power), G19 GND (power), G20 GND (power), G21 GND (power), G22 GND (power), G23 GND (power), G24 GND (power), G25 GND (power), G26 GND (power), G27 GND (power), G28 GND (power), G29 GND (power), G30 GND (power), G31 GND (power), G32 GND (power), G33 GND (power), G34 GND (power), G35 GND (power), G36 GND (power)

## test-XCZU3EG-1SFVC784E
designator U?
part E pins: A17 PS_MIO57 (io), A18 PS_MIO58 (io), A19 PS_MIO60 (io), A20 PS_MIO65 (io), B17 PS_MIO55 (io), B18 PS_MIO59 (io), B20 PS_MIO69 (io), C18 PS_MIO61 (io), C19 PS_MIO62 (io), C20 PS_MIO70 (io), D17 PS_MIO56 (io), D18 PS_MIO63 (io), D19 PS_MIO66 (io), E17 PS_MIO53 (io), E19 PS_MIO71 (io), E20 PS_MIO72 (io), F17 PS_MIO54 (io), F18 PS_MIO64 (io), F19 PS_MIO75 (io), F20 PS_MIO73 (io), G17 PS_MIO52 (io), G18 PS_MIO68 (io), G20 PS_MIO74 (io), H18 PS_MIO67 (io), H19 PS_MIO77 (io), H20 PS_MIO76 (io)
part E text: BANK 502